# Altium footprint library PCB_Library.PcbLib: 18 footprints (part 2 of 2)
Each footprint in its own frame and in the unit in brackets; x right, y up, seen from the top. Pads: shape width x height; smd on the part's side, far side on the other; paste and mask are expansions set on the pad; w line width, h text height; cw(c..) or ccw(c..) is an arc to the next point about the centre after c.
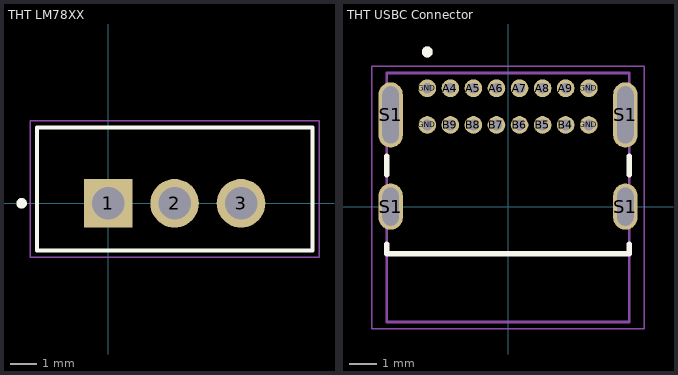
[diagram p1: the footprints below, top view; thin cyan lines are the x and y axes]

## THT LM78XX [mm]
pads (3):
  rect 1.86x1.86 / inner round 1.86 / far side rect 1.86x1.86 hole 1.24: 1(0,0)
  round 1.86 hole 1.24: 2(2.54,0) 3(5.08,0)
Top Overlay:
  circle w0.2: c-3.31,0 r0.1
  lines w0.152: -2.73,-1.8 -2.73,2.9 7.81,2.9 7.81,-1.8 -2.73,-1.8
Mechanical 13:
  lines w0.127: -2.73,-1.8 -2.73,2.9 7.81,2.9 7.81,-1.8 -2.73,-1.8
Mechanical 15:
  lines w0.05: -2.98,-2.052 8.06,-2.052 8.06,3.148 -2.98,3.148 -2.98,-2.052
3D body "step_temp.STEP": height 20.4, standoff -9.94, extent -2.54,-1.556 7.62,2.794

## THT USBC Connector [mm]
height 3.16
pads (20):
  round 0.65 hole 0.4: A4(-2.125,4.36) A5(-1.275,4.36) A6(-0.425,4.36) A7(0.425,4.36) A8(1.275,4.36) A9(2.125,4.36) B4(2.125,3.01) B5(1.275,3.01) B6(0.425,3.01) B7(-0.425,3.01) B8(-1.275,3.01) B9(-2.125,3.01) GND(-2.975,3.01) GND(-2.975,4.36) GND(2.975,3.01) GND(2.975,4.36)
  oval 0.9x1.7 hole 0.6 slot 1.4 at 90 deg: S1(-4.325,0) S1(4.325,0)
  oval 0.9x2.4 hole 0.6 slot 2.1 at 90 deg: S1(-4.325,3.38) S1(4.325,3.38)
Top Overlay:
  circle w0.2: c-2.975,5.7 r0.1
  lines w0.2: -4.47,-1.39 -4.47,-1.74 4.47,-1.74 4.47,-1.39 ; -4.47,1.17 -4.47,1.85 ; 4.47,1.17 4.47,1.85
Mechanical 13:
  circle w0.2: c-2.975,5.7 r0.1
  lines w0.1: -4.47,-4.25 -4.47,-1.74 -4.47,4.92 4.47,4.92 4.47,-4.25 -4.47,-4.25
Mechanical 15:
  lines w0.05: -5.025,-4.5 -5.025,5.17 5.025,5.17 5.025,-4.5 -5.025,-4.5
3D body "step_temp.STEP": height 3.46, standoff -2.1, extent -4.47,-4.25 4.47,4.92